# Altium schematic symbol library XTAL,24MHz,8pF,SMD.Schlib: 1 symbol
Pins are listed as number, name and electrical type; pins without a type are passive.

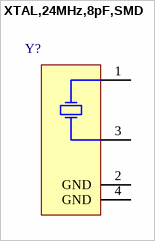
[diagram p0: symbol XTAL,24MHz,8pF,SMD]

## XTAL,24MHz,8pF,SMD
designator Y?
pins: 1 OSC1, 2 GND, 3 OSC2, 4 GND